# Altium footprint library Bootcamp_Footprint_Library.PcbLib: 20 footprints (part 1 of 2)
Each footprint in its own frame and in the unit in brackets; x right, y up, seen from the top. Pads: shape width x height; smd on the part's side, far side on the other; paste and mask are expansions set on the pad; w line width, h text height; cw(c..) or ccw(c..) is an arc to the next point about the centre after c.
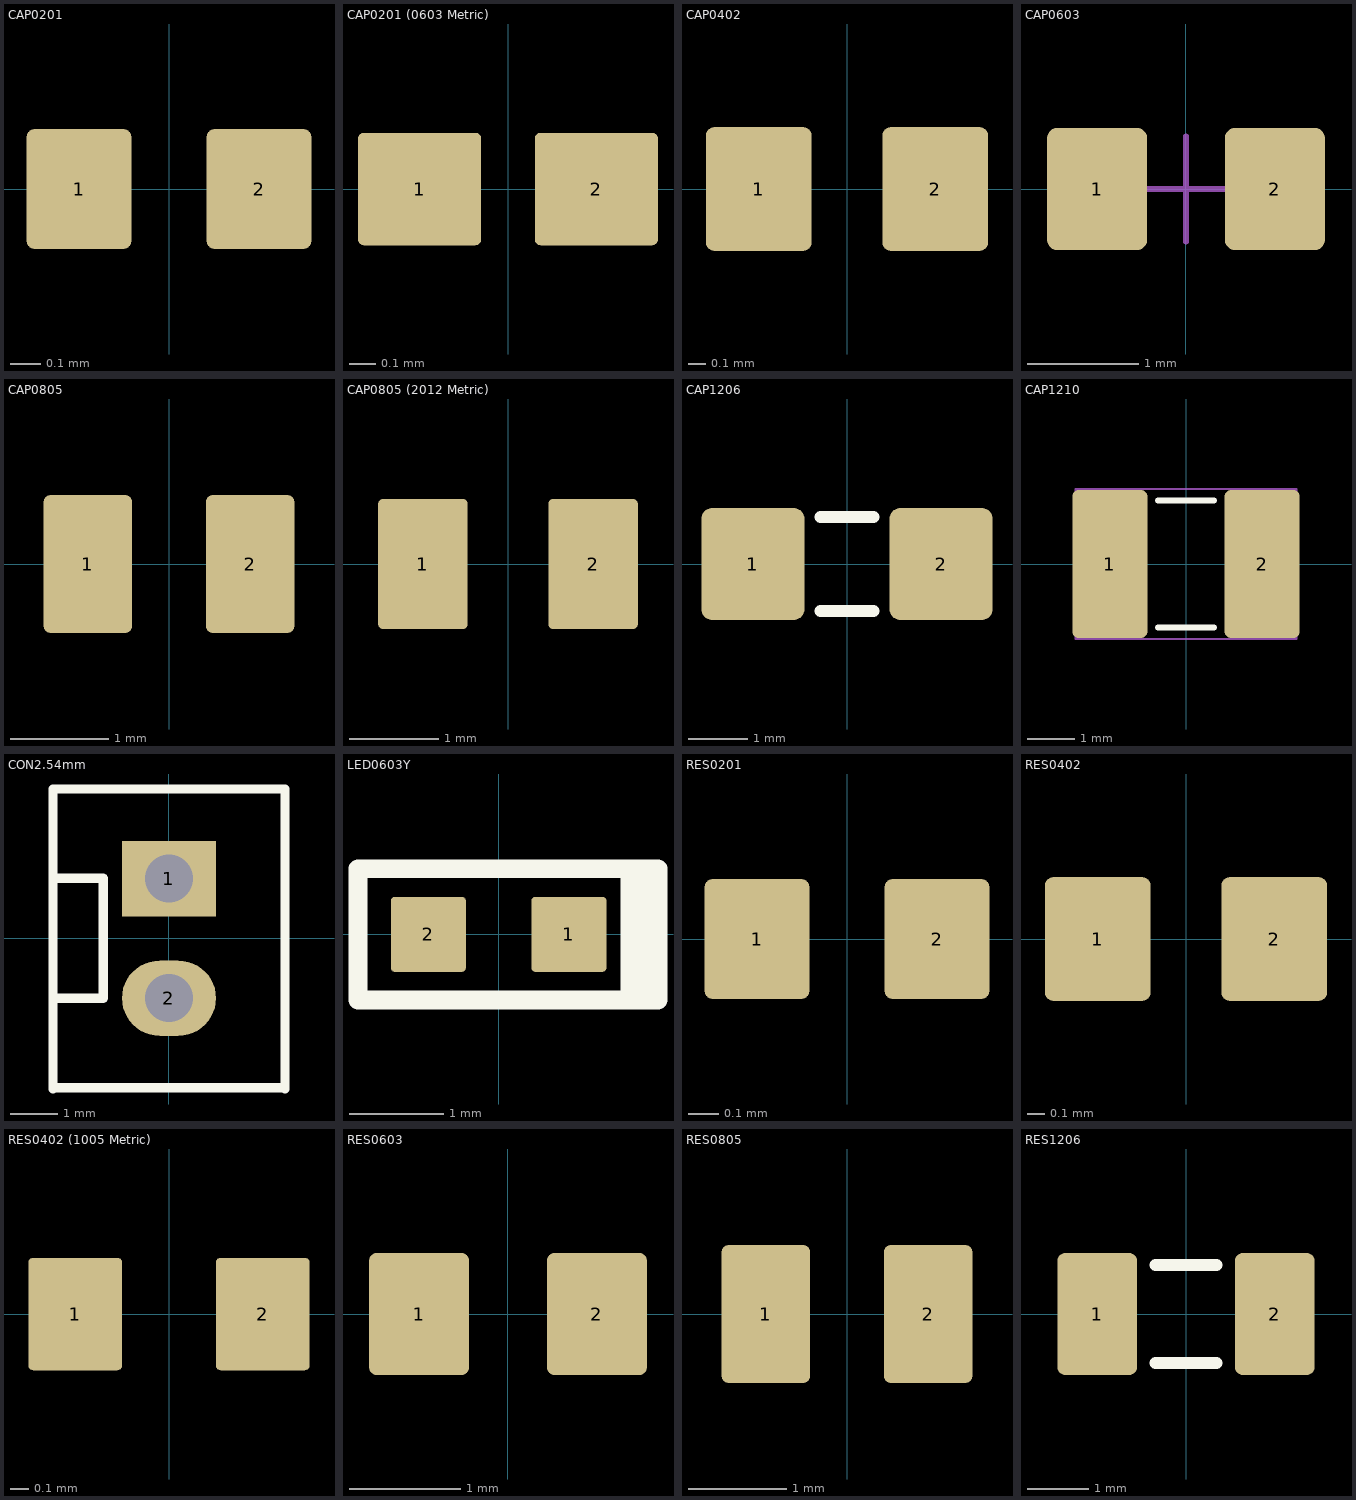
[diagram p0: the footprints below, top view; thin cyan lines are the x and y axes]

## CAP0201 [mm] "Chip Capacitor, Body 0.6x0.3mm, Height 0.25mm, IPC Medium Density"
pads (2):
  rrect15% 0.35x0.4 smd: 1(-0.3,0) 2(0.3,0)
3D body "CAP0201.SLDPRT": height 0.3, standoff 0, extent -0.3,-0.15 0.3,0.15

## CAP0201 (0603 Metric) [mm]
pads (2):
  rrect10% 0.46x0.42 smd mask+0.05: 1(-0.33,0) 2(0.33,0)
3D body "GRM033R60G225ME44D--3DModel-STEP-1.STEP": height 0.3, standoff 0, extent -0.3,-0.175 0.3,0.175

## CAP0402 [mm] "Chip Capacitor, Body 1x0.5mm, Height 0.35mm, IPC Medium Density"
pads (2):
  rrect15% 0.6x0.7 smd: 1(-0.5,0) 2(0.5,0)
3D body "CAP0402.stp": height 0.54, standoff -0.01, extent -0.525,-0.275 0.525,0.275

## CAP0603 [mm]
height 0.55
pads (2):
  rrect20% 0.9x1.1 smd: 1(-0.8,0) 2(0.8,0)
Mechanical 9:
  text ".Designator" at -2.253,-0.226 h1
Mechanical 13:
  lines w0.1: -0.875,-0.475 -0.875,0.475 ; 0.875,-0.475 0.875,0.475
Mechanical 15:
  lines w0.05: -0.475,0 0.475,0 ; 0,-0.475 0,0.475
3D body "c0603c101j1gactu.stp": height 0.87, standoff 0, extent -0.875,-0.475 0.875,0.475

## CAP0805 [mm] "Chip Capacitor, Body 2.0x1.2mm, Height 0.45mm, IPC Medium Density"
pads (2):
  rrect15% 0.9x1.4 smd: 1(-0.825,0) 2(0.825,0)
Mechanical 9:
  text ".Designator" at -2.253,-0.226 h1
3D body "CAP0805.stp": height 1.39, standoff -0.01, extent -1.1,-0.725 1.1,0.725

## CAP0805 (2012 Metric) [mm]
pads (2):
  rrect10% 1x1.45 smd mask+0.05: 1(-0.95,0) 2(0.95,0)
3D body "GRM21BR70J106KA73K.STEP": height 1.22, standoff -0.03, extent -1,-0.7 1,0.7

## CAP1206 [mm] "Chip Capacitor, Body 3.2x1.6mm, Height 0.55mm, IPC Medium Density"
height 0.55
pads (2):
  rrect20% 1.75x1.9 smd: 1(-1.6,0) 2(1.6,0)
Top Overlay:
  lines w0.2: -0.45,-0.8 0.45,-0.8 ; -0.45,0.8 0.45,0.8
Mechanical 9:
  text ".Designator" at -2.253,-0.226 h1
3D body "1206.stp": height 0.88, standoff 0, extent -1.7,-0.9 1.7,0.9

## CAP1210 [mm]
pads (2):
  rrect15% 1.6x3.15 smd: 1(-1.625,0) 2(1.625,0)
Top Overlay:
  lines w0.127: -0.6,-1.35 0.6,-1.35 ; -0.6,1.35 0.6,1.35
Mechanical 9:
  text ".Designator" at -2.253,-0.226 h1
Mechanical 15:
  lines w0.05: -2.355,-1.6 2.355,-1.6 2.355,1.6 -2.355,1.6 -2.355,-1.6
3D body "c1210c106k3pactu.stp": height 2.1, standoff 0, extent -1.7,-1.35 1.7,1.35

## CON2.54mm [mm]
pads (2):
  rect 2x1.6 hole 1.02 mask+0.05: 1(0,1.27)
  oval 2x1.6 hole 1.02 mask+0.05: 2(0,-1.27)
Top Overlay:
  lines w0.2: -2.465,-3.2 -2.465,3.15 ; -2.465,-3.175 2.465,-3.175 ; -2.465,3.175 2.465,3.175 ; -2.42,-1.27 -1.395,-1.27 -1.395,1.275 -2.4,1.275 ; 2.465,-3.2 2.465,3.15

## LED0603Y [mm]
pads (2):
  rrect10% 0.8x0.8 smd mask+0.05: 1(0.75,0) 2(-0.75,0)
Top Overlay:
  rectangle: 1.3,-0.8 1.7,0.7
  lines w0.2: -1.5,-0.7 1.7,-0.7 1.7,0.7 -1.5,0.7 -1.5,-0.7
3D body "SML-D12M1WT86.STEP": height 0.55, standoff 0, extent -0.8,-0.4 0.8,0.4

## RES0201 [mm] "Chip Resistor, Body 0.6x0.3mm, IPC Medium Density"
pads (2):
  rrect15% 0.35x0.4 smd: 1(-0.3,0) 2(0.3,0)
3D body "RES0201.step": height 0.22, standoff -0.02, extent -0.3,-0.15 0.3,0.15

## RES0402 [mm] "Chip Resistor, Body 1x0.5mm, IPC Medium Density"
pads (2):
  rrect15% 0.6x0.7 smd: 1(-0.5,0) 2(0.5,0)
3D body "User Library-R SMD 0402.STEP": height 0.27, standoff -0.08, extent -0.5,-0.25 0.5,0.25

## RES0402 (1005 Metric) [mm]
pads (2):
  rrect10% 0.5x0.6 smd mask+0.05: 1(-0.5,0) 2(0.5,0)

## RES0603 [mm] "Chip Resistor, Body 1.6x0.8mm, IPC Medium Density"
height 0.6
pads (2):
  rrect15% 0.9x1.1 smd: 1(-0.8,0) 2(0.8,0)
Mechanical 9:
  text ".Designator" at -2.253,-0.226 h1
3D body "0603.step": height 0.46, standoff 0.01, extent -0.8,-0.4 0.8,0.4

## RES0805 [mm] "Chip Resistor, 2-Leads, Body 2.00x1.25mm, IPC High Density"
height 0.5
pads (2):
  rrect15% 0.9x1.4 smd: 1(-0.825,0) 2(0.825,0)
Mechanical 9:
  text ".Designator" at -2.253,-0.226 h1
3D body "0805 resistor.step": height 0.61, standoff 0.01, extent -1,-0.625 1,0.625

## RES1206 [mm] "Chip Resistor, Body 3.2x1.6mm, IPC Medium Density"
height 0.75
pads (2):
  rrect20% 1.3x2 smd: 1(-1.45,0) 2(1.45,0)
Top Overlay:
  lines w0.2: -0.5,-0.8 0.5,-0.8 ; -0.5,0.8 0.5,0.8
Mechanical 9:
  text ".Designator" at -2.253,-0.226 h1
3D body "1206 resistor.step": height 0.61, standoff 0.01, extent -1.6,-0.8 1.6,0.8